# EAGLE library part ATMEGA32U4- (library Domino)
8-bit AVR Microcontroller with 32K Bytes of ISP Flash and USB Controller
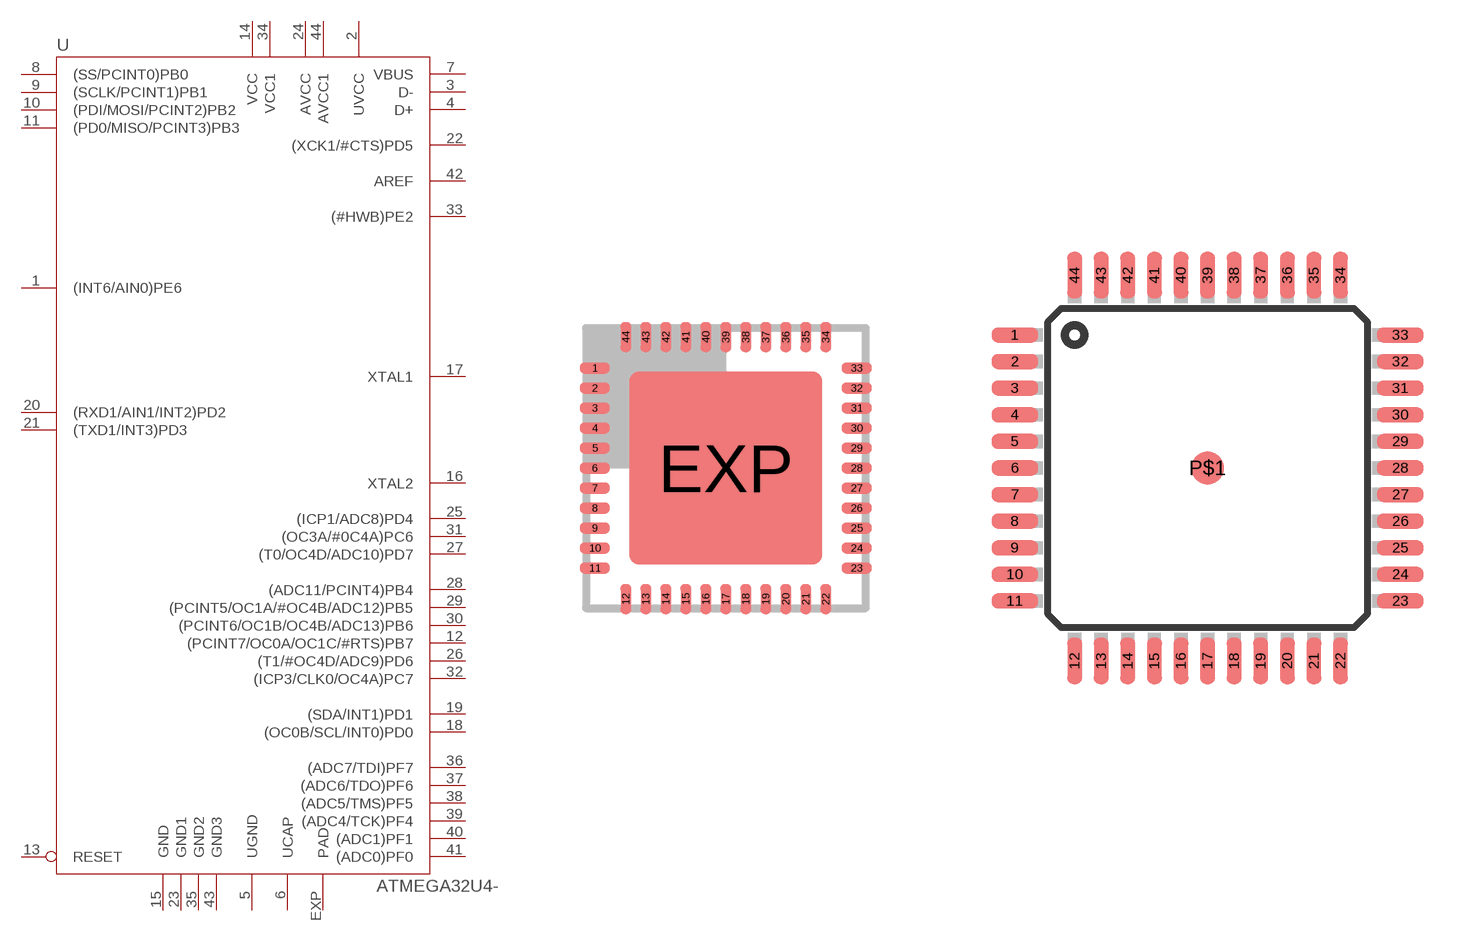
[diagram p40: symbol with the pads of QFN44ML7X7; footprints QFN44ML7X7, TQFP44-PAD]

Designator prefix U

## ATMEGA32U4-MU  [QFN44ML7X7]
1  (INT6/AIN0)PE6
2  UVCC  pwr
3  D-
4  D+
5  UGND  pwr
6  UCAP  pas
7  VBUS  in
8  (SS/PCINT0)PB0
9  (SCLK/PCINT1)PB1
10  (PDI/MOSI/PCINT2)PB2
11  (PD0/MISO/PCINT3)PB3
12  (PCINT7/OC0A/OC1C/#RTS)PB7
13  RESET  in
14  VCC  pwr
15  GND  pwr
16  XTAL2
17  XTAL1
18  (OC0B/SCL/INT0)PD0
19  (SDA/INT1)PD1
20  (RXD1/AIN1/INT2)PD2
21  (TXD1/INT3)PD3
22  (XCK1/#CTS)PD5
23  GND1  pwr
24  AVCC  pwr
25  (ICP1/ADC8)PD4
26  (T1/#OC4D/ADC9)PD6
27  (T0/OC4D/ADC10)PD7
28  (ADC11/PCINT4)PB4
29  (PCINT5/OC1A/#OC4B/ADC12)PB5
30  (PCINT6/OC1B/OC4B/ADC13)PB6
31  (OC3A/#0C4A)PC6
32  (ICP3/CLK0/OC4A)PC7
33  (#HWB)PE2
34  VCC1  pwr
35  GND2  pwr
36  (ADC7/TDI)PF7
37  (ADC6/TDO)PF6
38  (ADC5/TMS)PF5
39  (ADC4/TCK)PF4
40  (ADC1)PF1
41  (ADC0)PF0
42  AREF  pwr
43  GND3  pwr
44  AVCC1  pwr
EXP  PAD  pwr

## ATMEGA32U4-AU  [TQFP44-PAD]
1  (INT6/AIN0)PE6
2  UVCC  pwr
3  D-
4  D+
5  UGND  pwr
6  UCAP  pas
7  VBUS  in
8  (SS/PCINT0)PB0
9  (SCLK/PCINT1)PB1
10  (PDI/MOSI/PCINT2)PB2
11  (PD0/MISO/PCINT3)PB3
12  (PCINT7/OC0A/OC1C/#RTS)PB7
13  RESET  in
14  VCC  pwr
15  GND  pwr
16  XTAL2
17  XTAL1
18  (OC0B/SCL/INT0)PD0
19  (SDA/INT1)PD1
20  (RXD1/AIN1/INT2)PD2
21  (TXD1/INT3)PD3
22  (XCK1/#CTS)PD5
23  GND1  pwr
24  AVCC  pwr
25  (ICP1/ADC8)PD4
26  (T1/#OC4D/ADC9)PD6
27  (T0/OC4D/ADC10)PD7
28  (ADC11/PCINT4)PB4
29  (PCINT5/OC1A/#OC4B/ADC12)PB5
30  (PCINT6/OC1B/OC4B/ADC13)PB6
31  (OC3A/#0C4A)PC6
32  (ICP3/CLK0/OC4A)PC7
33  (#HWB)PE2
34  VCC1  pwr
35  GND2  pwr
36  (ADC7/TDI)PF7
37  (ADC6/TDO)PF6
38  (ADC5/TMS)PF5
39  (ADC4/TCK)PF4
40  (ADC1)PF1
41  (ADC0)PF0
42  AREF  pwr
43  GND3  pwr
44  AVCC1  pwr
P$1  PAD  pwr

## ATMEGA32U4-AU/MU  [ATMEGA32U4_DUAL_FOOTPRINT]
1A  (INT6/AIN0)PE6
1M  (INT6/AIN0)PE6
2A  UVCC  pwr
2M  UVCC  pwr
3A  D-
3M  D-
4A  D+
4M  D+
5A  UGND  pwr
5M  UGND  pwr
6A  UCAP  pas
6M  UCAP  pas
7A  VBUS  in
7M  VBUS  in
8A  (SS/PCINT0)PB0
8M  (SS/PCINT0)PB0
9A  (SCLK/PCINT1)PB1
9M  (SCLK/PCINT1)PB1
10A  (PDI/MOSI/PCINT2)PB2
10M  (PDI/MOSI/PCINT2)PB2
11A  (PD0/MISO/PCINT3)PB3
11M  (PD0/MISO/PCINT3)PB3
12A  (PCINT7/OC0A/OC1C/#RTS)PB7
12M  (PCINT7/OC0A/OC1C/#RTS)PB7
13A  RESET  in
13M  RESET  in
14A  VCC  pwr
14M  VCC  pwr
15A  GND  pwr
15M  GND  pwr
16A  XTAL2
16M  XTAL2
17A  XTAL1
17M  XTAL1
18A  (OC0B/SCL/INT0)PD0
18M  (OC0B/SCL/INT0)PD0
19A  (SDA/INT1)PD1
19M  (SDA/INT1)PD1
20A  (RXD1/AIN1/INT2)PD2
20M  (RXD1/AIN1/INT2)PD2
21A  (TXD1/INT3)PD3
21M  (TXD1/INT3)PD3
22A  (XCK1/#CTS)PD5
22M  (XCK1/#CTS)PD5
23A  GND1  pwr
23M  GND1  pwr
24A  AVCC  pwr
24M  AVCC  pwr
25A  (ICP1/ADC8)PD4
25M  (ICP1/ADC8)PD4
26  (T1/#OC4D/ADC9)PD6
26M  (T1/#OC4D/ADC9)PD6
27A  (T0/OC4D/ADC10)PD7
27M  (T0/OC4D/ADC10)PD7
28A  (ADC11/PCINT4)PB4
28M  (ADC11/PCINT4)PB4
29A  (PCINT5/OC1A/#OC4B/ADC12)PB5
29M  (PCINT5/OC1A/#OC4B/ADC12)PB5
30A  (PCINT6/OC1B/OC4B/ADC13)PB6
30M  (PCINT6/OC1B/OC4B/ADC13)PB6
31A  (OC3A/#0C4A)PC6
31M  (OC3A/#0C4A)PC6
32A  (ICP3/CLK0/OC4A)PC7
32M  (ICP3/CLK0/OC4A)PC7
33A  (#HWB)PE2
33M  (#HWB)PE2
34A  VCC1  pwr
34M  VCC1  pwr
35A  GND2  pwr
35M  GND2  pwr
36A  (ADC7/TDI)PF7
36M  (ADC7/TDI)PF7
37A  (ADC6/TDO)PF6
37M  (ADC6/TDO)PF6
38A  (ADC5/TMS)PF5
38M  (ADC5/TMS)PF5
39A  (ADC4/TCK)PF4
39M  (ADC4/TCK)PF4
40A  (ADC1)PF1
40M  (ADC1)PF1
41A  (ADC0)PF0
41M  (ADC0)PF0
42A  AREF  pwr
42M  AREF  pwr
43A  GND3  pwr
43M  GND3  pwr
44A  AVCC1  pwr
44M  AVCC1  pwr
PAD  PAD  pwr

## Footprint QFN44ML7X7 (pad centres in mm)
smd 0.75 x 0.275: 1 -3.275,2.5; 2 -3.275,2; 3 -3.275,1.5; 4 -3.275,1; 5 -3.275,0.5; 6 -3.275,0; 7 -3.275,-0.5; 8 -3.275,-1; 9 -3.275,-1.5; 10 -3.275,-2; 11 -3.275,-2.5; 23 3.275,-2.5; 24 3.275,-2; 25 3.275,-1.5; 26 3.275,-1; 27 3.275,-0.5; 28 3.275,0; 29 3.275,0.5; 30 3.275,1; 31 3.275,1.5; 32 3.275,2; 33 3.275,2.5
smd 0.275 x 0.75: 12 -2.5,-3.275; 13 -2,-3.275; 14 -1.5,-3.275; 15 -1,-3.275; 16 -0.5,-3.275; 17 0,-3.275; 18 0.5,-3.275; 19 1,-3.275; 20 1.5,-3.275; 21 2,-3.275; 22 2.5,-3.275; 34 2.5,3.275; 35 2,3.275; 36 1.5,3.275; 37 1,3.275; 38 0.5,3.275; 39 0,3.275; 40 -0.5,3.275; 41 -1,3.275; 42 -1.5,3.275; 43 -2,3.275; 44 -2.5,3.275
smd 4.826 x 4.826: EXP 0,0

## Footprint TQFP44-PAD (pad centres in mm)
44-lead Thin Quad Flat Package
smd 1.4 x 0.45: 1 -5.8,4; 2 -5.8,3.2; 3 -5.8,2.4; 4 -5.8,1.6; 5 -5.8,0.8; 6 -5.8,0; 7 -5.8,-0.8; 8 -5.8,-1.6; 9 -5.8,-2.4; 10 -5.8,-3.2; 11 -5.8,-4; 23 5.8,-4; 24 5.8,-3.2; 25 5.8,-2.4; 26 5.8,-1.6; 27 5.8,-0.8; 28 5.8,0; 29 5.8,0.8; 30 5.8,1.6; 31 5.8,2.4; 32 5.8,3.2; 33 5.8,4
smd 0.45 x 1.4: 12 -4,-5.8; 13 -3.2,-5.8; 14 -2.4,-5.8; 15 -1.6,-5.8; 16 -0.8,-5.8; 17 0,-5.8; 18 0.8,-5.8; 19 1.6,-5.8; 20 2.4,-5.8; 21 3.2,-5.8; 22 4,-5.8; 34 4,5.8; 35 3.2,5.8; 36 2.4,5.8; 37 1.6,5.8; 38 0.8,5.8; 39 0,5.8; 40 -0.8,5.8; 41 -1.6,5.8; 42 -2.4,5.8; 43 -3.2,5.8; 44 -4,5.8
smd 1 x 1: P$1 0,0

## Footprint ATMEGA32U4_DUAL_FOOTPRINT (pad centres in mm)
ATMEGA32U4 Dual Footprint TQFP44 / QFN44 7 mm x 7 mm Body
smd 1.4 x 0.45: 1A -5.8,4; 2A -5.8,3.2; 3A -5.8,2.4; 4A -5.8,1.6; 5A -5.8,0.8; 6A -5.8,0; 7A -5.8,-0.8; 8A -5.8,-1.6; 9A -5.8,-2.4; 10A -5.8,-3.2; 11A -5.8,-4; 23A 5.8,-4; 24A 5.8,-3.2; 25A 5.8,-2.4; 26 5.8,-1.6; 27A 5.8,-0.8; 28A 5.8,0; 29A 5.8,0.8; 30A 5.8,1.6; 31A 5.8,2.4; 32A 5.8,3.2; 33A 5.8,4
smd 0.75 x 0.275: 1M -3.275,2.5; 2M -3.275,2; 3M -3.275,1.5; 4M -3.275,1; 5M -3.275,0.5; 6M -3.275,0; 7M -3.275,-0.5; 8M -3.275,-1; 9M -3.275,-1.5; 10M -3.275,-2; 11M -3.275,-2.5; 23M 3.275,-2.5; 24M 3.275,-2; 25M 3.275,-1.5; 26M 3.275,-1; 27M 3.275,-0.5; 28M 3.275,0; 29M 3.275,0.5; 30M 3.275,1; 31M 3.275,1.5; 32M 3.275,2; 33M 3.275,2.5
smd 0.45 x 1.4: 12A -4,-5.8; 13A -3.2,-5.8; 14A -2.4,-5.8; 15A -1.6,-5.8; 16A -0.8,-5.8; 17A 0,-5.8; 18A 0.8,-5.8; 19A 1.6,-5.8; 20A 2.4,-5.8; 21A 3.2,-5.8; 22A 4,-5.8; 34A 4,5.8; 35A 3.2,5.8; 36A 2.4,5.8; 37A 1.6,5.8; 38A 0.8,5.8; 39A 0,5.8; 40A -0.8,5.8; 41A -1.6,5.8; 42A -2.4,5.8; 43A -3.2,5.8; 44A -4,5.8
smd 0.275 x 0.75: 12M -2.5,-3.275; 13M -2,-3.275; 14M -1.5,-3.275; 15M -1,-3.275; 16M -0.5,-3.275; 17M 0,-3.275; 18M 0.5,-3.275; 19M 1,-3.275; 20M 1.5,-3.275; 21M 2,-3.275; 22M 2.5,-3.275; 34M 2.5,3.275; 35M 2,3.275; 36M 1.5,3.275; 37M 1,3.275; 38M 0.5,3.275; 39M 0,3.275; 40M -0.5,3.275; 41M -1,3.275; 42M -1.5,3.275; 43M -2,3.275; 44M -2.5,3.275
smd 4.826 x 4.826: PAD 0,0